# EAGLE library part CD4050BD (library TI-CD4050BD)
CMOS Hex Buffer/Converters
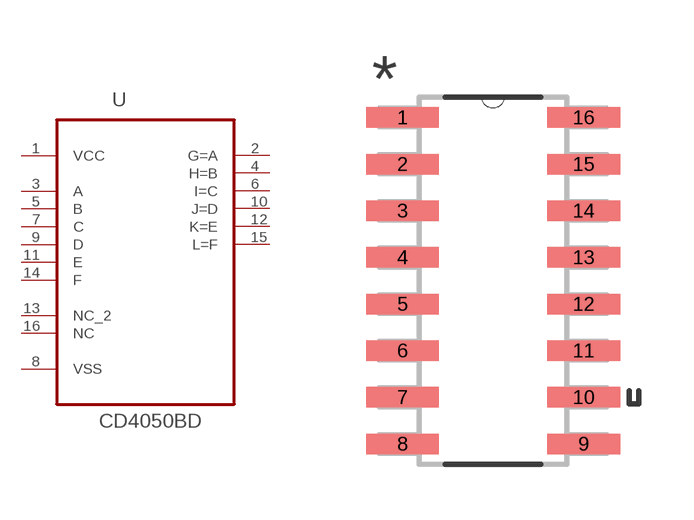
[diagram p0: symbol with the pads of SOIC127P600X175-16N; footprint SOIC127P600X175-16N]

Designator prefix U

## CD4050BD (MPN: CD4050BD; OC_FARNELL: 1740857; OC_NEWARK: 50R5062; PACKAGE: 16-SOIC; SUPPLIER: Texas Instruments)  [SOIC127P600X175-16N]
1  VCC  pwr
2  G=A  out
3  A  in
4  H=B  out
5  B  in
6  I=C  out
7  C  in
8  VSS  pwr
9  D  in
10  J=D  out
11  E  in
12  K=E  out
13  NC_2  nc
14  F  in
15  L=F  out
16  NC  nc

## Footprint SOIC127P600X175-16N (pad centres in mm)
smd 1.981 x 0.559: 1 -2.464,4.445; 2 -2.464,3.175; 3 -2.464,1.905; 4 -2.464,0.635; 5 -2.464,-0.635; 6 -2.464,-1.905; 7 -2.464,-3.175; 8 -2.464,-4.445; 9 2.464,-4.445; 10 2.464,-3.175; 11 2.464,-1.905; 12 2.464,-0.635; 13 2.464,0.635; 14 2.464,1.905; 15 2.464,3.175; 16 2.464,4.445